# EAGLE library part 687126183722 (library Eagle_FPC_CONNECTOR_AND_FFC_CAB (rev18c))
687126183722 WR-FPC 0.50mm SMT Horizontal Bottom Contact - Low Profile <http://katalog.we-online.de/media/images/v2/Family_WR-FPC_6871xx183722.jpg> Details see: http://katalog.we-online.de/en/em/FPC_0_5_SMT_ZIF_HORIZONTAL_BOTTOM_CONTACT_LOW_PROFILE_6871xx183722 Created by Yingchun,shan 2016 (C) Wurth Elektronik
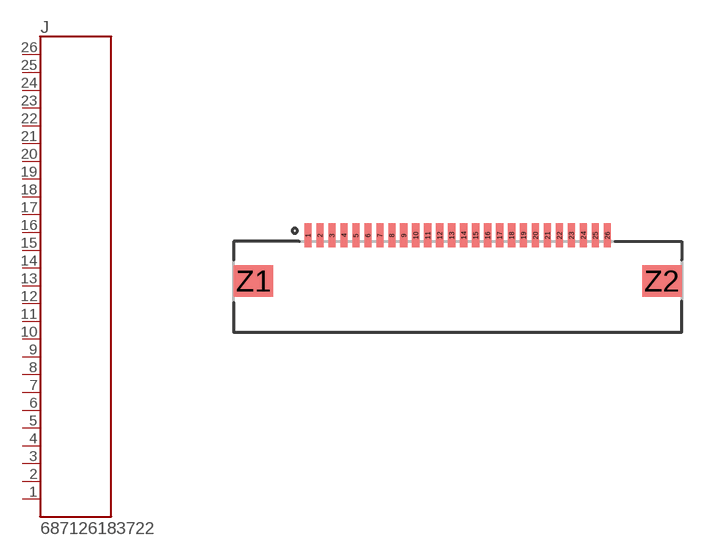
[diagram p205: symbol with the pads of 687126183722; footprint 687126183722]

Designator prefix J

## 687126183722  [687126183722]
1  26  pas
2  25  pas
3  24  pas
4  23  pas
5  22  pas
6  21  pas
7  20  pas
8  19  pas
9  18  pas
10  17  pas
11  16  pas
12  15  pas
13  14  pas
14  13  pas
15  12  pas
16  11  pas
17  10  pas
18  9  pas
19  8  pas
20  7  pas
21  6  pas
22  5  pas
23  4  pas
24  3  pas
25  2  pas
26  1  pas

## Footprint 687126183722 (pad centres in mm)
smd 0.3 x 1: 1 -6.25,1.9; 2 -5.75,1.9; 3 -5.25,1.9; 4 -4.75,1.9; 5 -4.25,1.9; 6 -3.75,1.9; 7 -3.25,1.9; 8 -2.75,1.9; 9 -2.25,1.9; 10 -1.75,1.9; 11 -1.25,1.9; 12 -0.75,1.9; 13 -0.25,1.9; 14 0.25,1.9; 15 0.75,1.9; 16 1.25,1.9; 17 1.75,1.9; 18 2.25,1.9; 19 2.75,1.9; 20 3.25,1.9; 21 3.75,1.9; 22 4.25,1.9; 23 4.75,1.9; 24 5.25,1.9; 25 5.75,1.9; 26 6.25,1.9
smd 1.65 x 1.3: Z1 -8.525,0; Z2 8.525,0